# EAGLE library part RFM69HW (library hopeRF2)
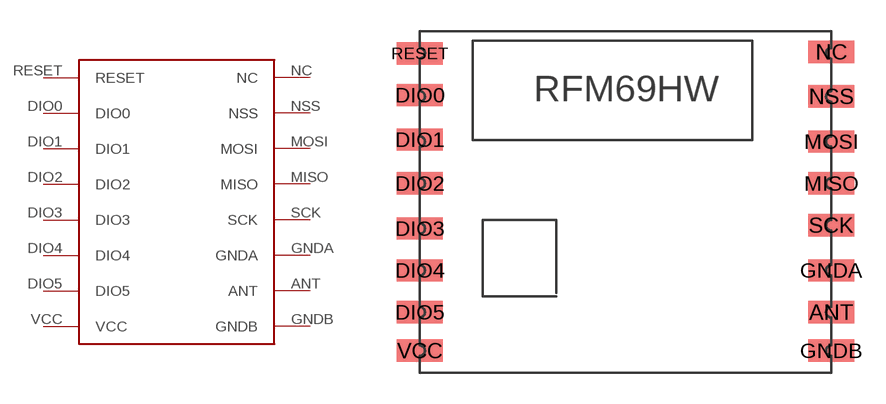
[diagram p0: symbol with the pads of RFM; footprint RFM]

Designator prefix -

## RFM69HW  [RFM]
ANT  ANT
DIO0  DIO0
DIO1  DIO1
DIO2  DIO2
DIO3  DIO3
DIO4  DIO4
DIO5  DIO5
GNDA  GNDA
GNDB  GNDB
MISO  MISO
MOSI  MOSI
NC  NC
NSS  NSS
RESET  RESET
SCK  SCK
VCC  VCC

## Footprint RFM (pad centres in mm)
smd 2.184 x 1.067: ANT 19.651,2.889; DIO0 0,13.27; DIO1 0,11.143; DIO2 0,9.047; DIO3 0,6.889; DIO4 0,4.889; DIO5 0,2.889; GNDA 19.651,4.889; GNDB 19.651,1.048; MISO 19.651,9.047; MOSI 19.651,11.047; NC 19.651,15.334; NSS 19.651,13.206; RESET 0,15.27; SCK 19.651,7.048; VCC 0,1.048